# Altium footprint library SnapEDApcb.PcbLib: 1 footprints
Each footprint in its own frame and in the unit in brackets; x right, y up, seen from the top. Pads: shape width x height; smd on the part's side, far side on the other; paste and mask are expansions set on the pad; w line width, h text height; cw(c..) or ccw(c..) is an arc to the next point about the centre after c.
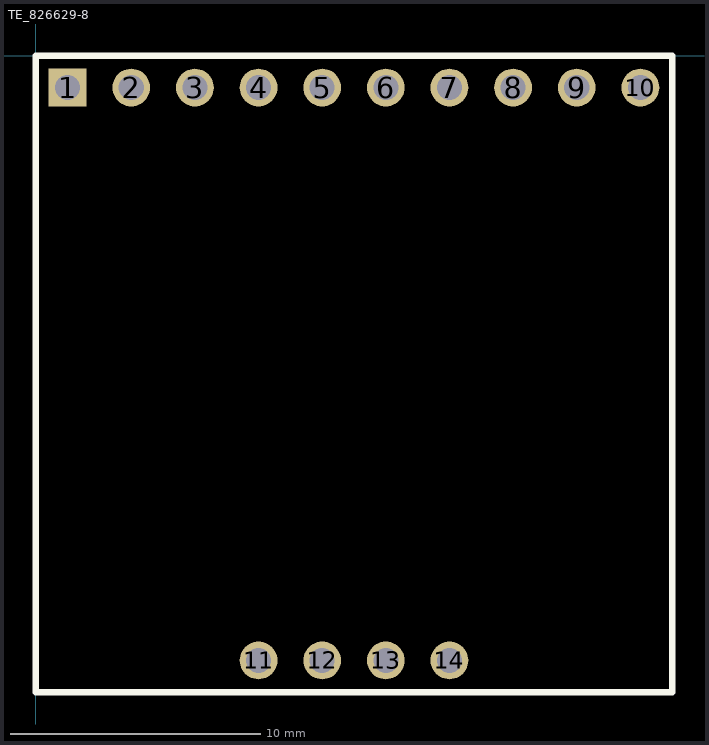
[diagram p0: the footprint, top view; thin cyan lines are the x and y axes]

## TE_826629-8 [mm]
pads (14):
  rect 1.508x1.508 hole 1: 1(1.27,-1.27)
  round 1.508 hole 1: 2(3.81,-1.27) 3(6.35,-1.27) 4(8.89,-1.27) 5(11.43,-1.27) 6(13.97,-1.27) 7(16.51,-1.27) 8(19.05,-1.27) 9(21.59,-1.27) 10(24.13,-1.27) 11(8.89,-24.13) 12(11.43,-24.13) 13(13.97,-24.13) 14(16.51,-24.13)
Top Overlay:
  lines w0.254: 0,-25.4 25.4,-25.4 25.4,0 0,0 0,-25.4